# Altium footprint library Modules.PcbLib: 14 footprints (part 4 of 6)
Each footprint in its own frame and in the unit in brackets; x right, y up, seen from the top. Pads: shape width x height; smd on the part's side, far side on the other; paste and mask are expansions set on the pad; w line width, h text height; cw(c..) or ccw(c..) is an arc to the next point about the centre after c.
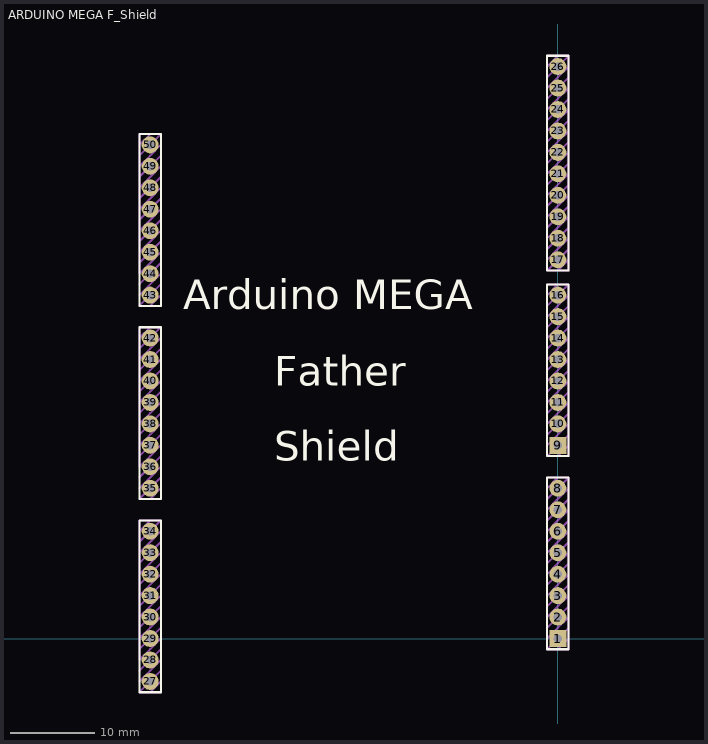
[diagram p3: the footprint, top view; thin cyan lines are the x and y axes]

## ARDUINO MEGA F_Shield [mm] "ARDUINO MEGA 2560 Full Father Shield"
pads (50):
  rect 2x2 hole 1: 1(0,0) 9(0,22.86)
  round 2 hole 1: 2(0,2.54) 3(0,5.08) 4(0,7.62) 5(0,10.16) 6(0,12.7) 7(0,15.24) 8(0,17.78) 10(0,25.4) 11(0,27.94) 12(0,30.48) 13(0,33.02) 14(0,35.56) 15(0,38.1) 16(0,40.64) 17(0,44.831) 18(0,47.371) 19(0,49.911) 20(0,52.451) 21(0,54.991) 22(0,57.531) 23(0,60.071) 24(0,62.611) 25(0,65.151) 26(0,67.691) 27(-48.26,-5.08) 28(-48.26,-2.54) 29(-48.26,0) 30(-48.26,2.54) 31(-48.26,5.08) 32(-48.26,7.62) 33(-48.26,10.16) 34(-48.26,12.7) 35(-48.26,17.78) 36(-48.26,20.32) 37(-48.26,22.86) 38(-48.26,25.4) 39(-48.26,27.94) 40(-48.26,30.48) 41(-48.26,33.02) 42(-48.26,35.56) 43(-48.26,40.64) 44(-48.26,43.18) 45(-48.26,45.72) 46(-48.26,48.26) 47(-48.26,50.8) 48(-48.26,53.34) 49(-48.26,55.88) 50(-48.26,58.42)
Top Overlay:
  drawing of 313 lines, arcs and shapes, not listed
  text "Father" at -33.59,29.91 h3.5
  text "Shield" at -33.59,21.02 h3.5
  text "Arduino MEGA" at -44.323,38.989 h3.5
Top Draw:
  drawing of 261 lines, arcs and shapes, not listed
3D body: height 2, standoff 0, extent -0.508,1.016 0.508,1.524
3D body: height 8.1, standoff 7.71, extent -0.257,2.283 0.197,2.737
3D body: height 8.1, standoff 7.71, extent -0.257,2.343 0.197,2.797
3D body: height 8.1, standoff 7.71, extent -0.197,2.343 0.257,2.797
3D body: height 8.1, standoff 7.71, extent -0.197,2.283 0.257,2.737
3D body: height 8.1, standoff 8, extent 0.152,2.388 0.254,2.692
3D body: height 8, standoff -2, extent -0.254,2.286 0.254,2.794
3D body: height 8.1, standoff 8, extent -0.152,2.692 0.152,2.794
3D body: height 8.1, standoff 8, extent -0.254,2.388 -0.152,2.692
3D body: height 8.1, standoff 8, extent -0.153,2.286 0.152,2.388
3D body: height 8.1, standoff 8, extent -0.152,2.388 0.152,2.692
3D body: height 2, standoff 0, extent -1.016,1.524 1.016,3.556
3D body: height 8.1, standoff 7.71, extent -0.257,-0.257 0.197,0.197
3D body: height 8.1, standoff 7.71, extent -0.257,-0.197 0.197,0.257
3D body: height 8.1, standoff 7.71, extent -0.197,-0.197 0.257,0.257
3D body: height 8.1, standoff 7.71, extent -0.197,-0.257 0.257,0.197
3D body: height 8.1, standoff 8, extent 0.152,-0.152 0.254,0.152
3D body: height 8, standoff -2, extent -0.254,-0.254 0.254,0.254
3D body: height 8.1, standoff 8, extent -0.152,0.152 0.152,0.254
3D body: height 8.1, standoff 8, extent -0.254,-0.152 -0.152,0.152
3D body: height 8.1, standoff 8, extent -0.153,-0.254 0.152,-0.152
3D body: height 8.1, standoff 8, extent -0.152,-0.152 0.152,0.152
3D body: height 2, standoff 0, extent -1.016,-1.016 1.016,1.016
3D body: height 2, standoff 0, extent -0.508,3.556 0.508,4.064
3D body: height 8.1, standoff 7.71, extent -0.257,4.823 0.197,5.277
3D body: height 8.1, standoff 7.71, extent -0.257,4.883 0.197,5.337
3D body: height 8.1, standoff 7.71, extent -0.197,4.883 0.257,5.337
3D body: height 8.1, standoff 7.71, extent -0.197,4.823 0.257,5.277
3D body: height 8.1, standoff 8, extent 0.152,4.928 0.254,5.232
3D body: height 8, standoff -2, extent -0.254,4.826 0.254,5.334
3D body: height 8.1, standoff 8, extent -0.152,5.232 0.152,5.334
3D body: height 8.1, standoff 8, extent -0.254,4.928 -0.152,5.232
3D body: height 8.1, standoff 8, extent -0.153,4.826 0.152,4.928
3D body: height 8.1, standoff 8, extent -0.152,4.928 0.152,5.232
3D body: height 2, standoff 0, extent -1.016,4.064 1.016,6.096
3D body: height 2, standoff 0, extent -0.508,6.096 0.508,6.604
3D body: height 8.1, standoff 7.71, extent -0.257,7.363 0.197,7.817
3D body: height 8.1, standoff 7.71, extent -0.257,7.423 0.197,7.877
3D body: height 8.1, standoff 7.71, extent -0.197,7.423 0.257,7.877
3D body: height 8.1, standoff 7.71, extent -0.197,7.363 0.257,7.817
3D body: height 8.1, standoff 8, extent 0.152,7.468 0.254,7.772
3D body: height 8, standoff -2, extent -0.254,7.366 0.254,7.874
3D body: height 8.1, standoff 8, extent -0.152,7.772 0.152,7.874
3D body: height 8.1, standoff 8, extent -0.254,7.468 -0.152,7.772
3D body: height 8.1, standoff 8, extent -0.153,7.366 0.152,7.468
3D body: height 8.1, standoff 8, extent -0.152,7.468 0.152,7.772
3D body: height 2, standoff 0, extent -1.016,6.604 1.016,8.636
3D body: height 2, standoff 0, extent -0.508,8.636 0.508,9.144
3D body: height 8.1, standoff 7.71, extent -0.257,9.903 0.197,10.357
3D body: height 8.1, standoff 7.71, extent -0.257,9.963 0.197,10.417
3D body: height 8.1, standoff 7.71, extent -0.197,9.963 0.257,10.417
3D body: height 8.1, standoff 7.71, extent -0.197,9.903 0.257,10.357
3D body: height 8.1, standoff 8, extent 0.152,10.008 0.254,10.312
3D body: height 8, standoff -2, extent -0.254,9.906 0.254,10.414
3D body: height 8.1, standoff 8, extent -0.152,10.312 0.152,10.414
3D body: height 8.1, standoff 8, extent -0.254,10.008 -0.152,10.312
3D body: height 8.1, standoff 8, extent -0.153,9.906 0.152,10.008
3D body: height 8.1, standoff 8, extent -0.152,10.008 0.152,10.312
3D body: height 2, standoff 0, extent -1.016,9.144 1.016,11.176
3D body: height 2, standoff 0, extent -0.508,11.176 0.508,11.684
3D body: height 8.1, standoff 7.71, extent -0.257,12.443 0.197,12.897
3D body: height 8.1, standoff 7.71, extent -0.257,12.503 0.197,12.957
3D body: height 8.1, standoff 7.71, extent -0.197,12.503 0.257,12.957
3D body: height 8.1, standoff 7.71, extent -0.197,12.443 0.257,12.897
3D body: height 8.1, standoff 8, extent 0.152,12.548 0.254,12.852
3D body: height 8, standoff -2, extent -0.254,12.446 0.254,12.954
3D body: height 8.1, standoff 8, extent -0.152,12.852 0.152,12.954
3D body: height 8.1, standoff 8, extent -0.254,12.548 -0.152,12.852
3D body: height 8.1, standoff 8, extent -0.153,12.446 0.152,12.548
3D body: height 8.1, standoff 8, extent -0.152,12.548 0.152,12.852
3D body: height 2, standoff 0, extent -1.016,11.684 1.016,13.716
3D body: height 2, standoff 0, extent -0.508,13.716 0.508,14.224
3D body: height 8.1, standoff 7.71, extent -0.257,14.983 0.197,15.437
3D body: height 8.1, standoff 7.71, extent -0.257,15.043 0.197,15.497
3D body: height 8.1, standoff 7.71, extent -0.197,15.043 0.257,15.497
3D body: height 8.1, standoff 7.71, extent -0.197,14.983 0.257,15.437
3D body: height 8.1, standoff 8, extent 0.152,15.088 0.254,15.392
3D body: height 8, standoff -2, extent -0.254,14.986 0.254,15.494
3D body: height 8.1, standoff 8, extent -0.152,15.392 0.152,15.494
3D body: height 8.1, standoff 8, extent -0.254,15.088 -0.152,15.392
3D body: height 8.1, standoff 8, extent -0.153,14.986 0.152,15.088
3D body: height 8.1, standoff 8, extent -0.152,15.088 0.152,15.392
3D body: height 2, standoff 0, extent -1.016,14.224 1.016,16.256
3D body: height 2, standoff 0, extent -0.508,16.256 0.508,16.764
3D body: height 8.1, standoff 7.71, extent -0.257,17.523 0.197,17.977
3D body: height 8.1, standoff 7.71, extent -0.257,17.583 0.197,18.037
3D body: height 8.1, standoff 7.71, extent -0.197,17.583 0.257,18.037
3D body: height 8.1, standoff 7.71, extent -0.197,17.523 0.257,17.977
3D body: height 8.1, standoff 8, extent 0.152,17.628 0.254,17.932
3D body: height 8, standoff -2, extent -0.254,17.526 0.254,18.034
3D body: height 8.1, standoff 8, extent -0.152,17.932 0.152,18.034
3D body: height 8.1, standoff 8, extent -0.254,17.628 -0.152,17.932
3D body: height 8.1, standoff 8, extent -0.153,17.526 0.152,17.628
3D body: height 8.1, standoff 8, extent -0.152,17.628 0.152,17.932
3D body: height 2, standoff 0, extent -1.016,16.764 1.016,18.796
3D body: height 2, standoff 0, extent -0.508,23.876 0.508,24.384
3D body: height 8.1, standoff 7.71, extent -0.257,25.143 0.197,25.597
3D body: height 8.1, standoff 7.71, extent -0.257,25.203 0.197,25.657
3D body: height 8.1, standoff 7.71, extent -0.197,25.203 0.257,25.657
3D body: height 8.1, standoff 7.71, extent -0.197,25.143 0.257,25.597
3D body: height 8.1, standoff 8, extent 0.152,25.248 0.254,25.552
3D body: height 8, standoff -2, extent -0.254,25.146 0.254,25.654
3D body: height 8.1, standoff 8, extent -0.152,25.552 0.152,25.654
3D body: height 8.1, standoff 8, extent -0.254,25.248 -0.152,25.552
3D body: height 8.1, standoff 8, extent -0.153,25.146 0.152,25.248
3D body: height 8.1, standoff 8, extent -0.152,25.248 0.152,25.552
3D body: height 2, standoff 0, extent -1.016,24.384 1.016,26.416
3D body: height 2, standoff 0, extent -0.508,26.416 0.508,26.924
3D body: height 8.1, standoff 7.71, extent -0.257,27.683 0.197,28.137
3D body: height 8.1, standoff 7.71, extent -0.257,27.743 0.197,28.197
3D body: height 8.1, standoff 7.71, extent -0.197,27.743 0.257,28.197
3D body: height 8.1, standoff 7.71, extent -0.197,27.683 0.257,28.137
3D body: height 8.1, standoff 8, extent 0.152,27.788 0.254,28.092
3D body: height 8, standoff -2, extent -0.254,27.686 0.254,28.194
3D body: height 8.1, standoff 8, extent -0.152,28.092 0.152,28.194
3D body: height 8.1, standoff 8, extent -0.254,27.788 -0.152,28.092
3D body: height 8.1, standoff 8, extent -0.153,27.686 0.152,27.788
3D body: height 8.1, standoff 8, extent -0.152,27.788 0.152,28.092
3D body: height 2, standoff 0, extent -1.016,26.924 1.016,28.956
3D body: height 2, standoff 0, extent -0.508,28.956 0.508,29.464
3D body: height 8.1, standoff 7.71, extent -0.257,30.223 0.197,30.677
3D body: height 8.1, standoff 7.71, extent -0.257,30.283 0.197,30.737
3D body: height 8.1, standoff 7.71, extent -0.197,30.283 0.257,30.737
3D body: height 8.1, standoff 7.71, extent -0.197,30.223 0.257,30.677
3D body: height 8.1, standoff 8, extent 0.152,30.328 0.254,30.632
3D body: height 8, standoff -2, extent -0.254,30.226 0.254,30.734
3D body: height 8.1, standoff 8, extent -0.152,30.632 0.152,30.734
3D body: height 8.1, standoff 8, extent -0.254,30.328 -0.152,30.632
3D body: height 8.1, standoff 8, extent -0.153,30.226 0.152,30.328
3D body: height 8.1, standoff 8, extent -0.152,30.328 0.152,30.632
3D body: height 2, standoff 0, extent -1.016,29.464 1.016,31.496
3D body: height 2, standoff 0, extent -0.508,31.496 0.508,32.004
3D body: height 8.1, standoff 7.71, extent -0.257,32.763 0.197,33.217
3D body: height 8.1, standoff 7.71, extent -0.257,32.823 0.197,33.277
3D body: height 8.1, standoff 7.71, extent -0.197,32.823 0.257,33.277
3D body: height 8.1, standoff 7.71, extent -0.197,32.763 0.257,33.217
3D body: height 8.1, standoff 8, extent 0.152,32.868 0.254,33.172
3D body: height 8, standoff -2, extent -0.254,32.766 0.254,33.274
3D body: height 8.1, standoff 8, extent -0.152,33.172 0.152,33.274
3D body: height 8.1, standoff 8, extent -0.254,32.868 -0.152,33.172
3D body: height 8.1, standoff 8, extent -0.153,32.766 0.152,32.868
3D body: height 8.1, standoff 8, extent -0.152,32.868 0.152,33.172
3D body: height 2, standoff 0, extent -1.016,32.004 1.016,34.036
3D body: height 2, standoff 0, extent -0.508,34.036 0.508,34.544
3D body: height 8.1, standoff 7.71, extent -0.257,35.303 0.197,35.757
3D body: height 8.1, standoff 7.71, extent -0.257,35.363 0.197,35.817
3D body: height 8.1, standoff 7.71, extent -0.197,35.363 0.257,35.817
3D body: height 8.1, standoff 7.71, extent -0.197,35.303 0.257,35.757
3D body: height 8.1, standoff 8, extent 0.152,35.408 0.254,35.712
3D body: height 8, standoff -2, extent -0.254,35.306 0.254,35.814
3D body: height 8.1, standoff 8, extent -0.152,35.712 0.152,35.814
3D body: height 8.1, standoff 8, extent -0.254,35.408 -0.152,35.712
3D body: height 8.1, standoff 8, extent -0.153,35.306 0.152,35.408
3D body: height 8.1, standoff 8, extent -0.152,35.408 0.152,35.712
3D body: height 2, standoff 0, extent -1.016,34.544 1.016,36.576
3D body: height 2, standoff 0, extent -0.508,36.576 0.508,37.084
3D body: height 8.1, standoff 7.71, extent -0.257,37.843 0.197,38.297
3D body: height 8.1, standoff 7.71, extent -0.257,37.903 0.197,38.357
3D body: height 8.1, standoff 7.71, extent -0.197,37.903 0.257,38.357
3D body: height 8.1, standoff 7.71, extent -0.197,37.843 0.257,38.297
3D body: height 8.1, standoff 8, extent 0.152,37.948 0.254,38.252
3D body: height 8, standoff -2, extent -0.254,37.846 0.254,38.354
3D body: height 8.1, standoff 8, extent -0.152,38.252 0.152,38.354
3D body: height 8.1, standoff 8, extent -0.254,37.948 -0.152,38.252
3D body: height 8.1, standoff 8, extent -0.153,37.846 0.152,37.948
3D body: height 8.1, standoff 8, extent -0.152,37.948 0.152,38.252
3D body: height 2, standoff 0, extent -1.016,37.084 1.016,39.116
3D body: height 2, standoff 0, extent -0.508,39.116 0.508,39.624
3D body: height 8.1, standoff 7.71, extent -0.257,40.383 0.197,40.837
3D body: height 8.1, standoff 7.71, extent -0.257,40.443 0.197,40.897
3D body: height 8.1, standoff 7.71, extent -0.197,40.443 0.257,40.897
3D body: height 8.1, standoff 7.71, extent -0.197,40.383 0.257,40.837
3D body: height 8.1, standoff 8, extent 0.152,40.488 0.254,40.792
3D body: height 8, standoff -2, extent -0.254,40.386 0.254,40.894
3D body: height 8.1, standoff 8, extent -0.152,40.792 0.152,40.894
3D body: height 8.1, standoff 8, extent -0.254,40.488 -0.152,40.792
3D body: height 8.1, standoff 8, extent -0.153,40.386 0.152,40.488
3D body: height 8.1, standoff 8, extent -0.152,40.488 0.152,40.792
3D body: height 2, standoff 0, extent -1.016,39.624 1.016,41.656
3D body: height 8.1, standoff 7.71, extent -0.257,22.603 0.197,23.057
3D body: height 8.1, standoff 7.71, extent -0.257,22.663 0.197,23.117
3D body: height 8.1, standoff 7.71, extent -0.197,22.663 0.257,23.117
3D body: height 8.1, standoff 7.71, extent -0.197,22.603 0.257,23.057
3D body: height 8.1, standoff 8, extent 0.152,22.708 0.254,23.012
3D body: height 8, standoff -2, extent -0.254,22.606 0.254,23.114
3D body: height 8.1, standoff 8, extent -0.152,23.012 0.152,23.114
3D body: height 8.1, standoff 8, extent -0.254,22.708 -0.152,23.012
3D body: height 8.1, standoff 8, extent -0.153,22.606 0.152,22.708
3D body: height 8.1, standoff 8, extent -0.152,22.708 0.152,23.012
3D body: height 2, standoff 0, extent -1.016,21.844 1.016,23.876
3D body: height 2, standoff 0, extent -0.508,45.847 0.508,46.355
3D body: height 8.1, standoff 7.71, extent -0.257,47.114 0.197,47.568
3D body: height 8.1, standoff 7.71, extent -0.257,47.174 0.197,47.628
3D body: height 8.1, standoff 7.71, extent -0.197,47.174 0.257,47.628
3D body: height 8.1, standoff 7.71, extent -0.197,47.114 0.257,47.568
3D body: height 8.1, standoff 8, extent 0.152,47.219 0.254,47.523
3D body: height 8, standoff -2, extent -0.254,47.117 0.254,47.625
3D body: height 8.1, standoff 8, extent -0.152,47.523 0.152,47.625
3D body: height 8.1, standoff 8, extent -0.254,47.219 -0.152,47.523
3D body: height 8.1, standoff 8, extent -0.153,47.117 0.152,47.219
3D body: height 8.1, standoff 8, extent -0.152,47.219 0.152,47.523
3D body: height 2, standoff 0, extent -1.016,46.355 1.016,48.387
3D body: height 2, standoff 0, extent -0.508,48.387 0.508,48.895
3D body: height 8.1, standoff 7.71, extent -0.257,49.654 0.197,50.108
3D body: height 8.1, standoff 7.71, extent -0.257,49.714 0.197,50.168
3D body: height 8.1, standoff 7.71, extent -0.197,49.714 0.257,50.168
3D body: height 8.1, standoff 7.71, extent -0.197,49.654 0.257,50.108
3D body: height 8.1, standoff 8, extent 0.152,49.759 0.254,50.063
3D body: height 8, standoff -2, extent -0.254,49.657 0.254,50.165
3D body: height 8.1, standoff 8, extent -0.152,50.063 0.152,50.165
3D body: height 8.1, standoff 8, extent -0.254,49.759 -0.152,50.063
3D body: height 8.1, standoff 8, extent -0.153,49.657 0.152,49.759
3D body: height 8.1, standoff 8, extent -0.152,49.759 0.152,50.063
3D body: height 2, standoff 0, extent -1.016,48.895 1.016,50.927
3D body: height 2, standoff 0, extent -0.508,50.927 0.508,51.435
3D body: height 8.1, standoff 7.71, extent -0.257,52.194 0.197,52.648
3D body: height 8.1, standoff 7.71, extent -0.257,52.254 0.197,52.708
3D body: height 8.1, standoff 7.71, extent -0.197,52.254 0.257,52.708
3D body: height 8.1, standoff 7.71, extent -0.197,52.194 0.257,52.648
3D body: height 8.1, standoff 8, extent 0.152,52.299 0.254,52.603
3D body: height 8, standoff -2, extent -0.254,52.197 0.254,52.705
3D body: height 8.1, standoff 8, extent -0.152,52.603 0.152,52.705
3D body: height 8.1, standoff 8, extent -0.254,52.299 -0.152,52.603
3D body: height 8.1, standoff 8, extent -0.153,52.197 0.152,52.299
3D body: height 8.1, standoff 8, extent -0.152,52.299 0.152,52.603
3D body: height 2, standoff 0, extent -1.016,51.435 1.016,53.467
3D body: height 2, standoff 0, extent -0.508,53.467 0.508,53.975
3D body: height 8.1, standoff 7.71, extent -0.257,54.734 0.197,55.188
3D body: height 8.1, standoff 7.71, extent -0.257,54.794 0.197,55.248
3D body: height 8.1, standoff 7.71, extent -0.197,54.794 0.257,55.248
3D body: height 8.1, standoff 7.71, extent -0.197,54.734 0.257,55.188
3D body: height 8.1, standoff 8, extent 0.152,54.839 0.254,55.143
3D body: height 8, standoff -2, extent -0.254,54.737 0.254,55.245
3D body: height 8.1, standoff 8, extent -0.152,55.143 0.152,55.245
3D body: height 8.1, standoff 8, extent -0.254,54.839 -0.152,55.143
3D body: height 8.1, standoff 8, extent -0.153,54.737 0.152,54.839
3D body: height 8.1, standoff 8, extent -0.152,54.839 0.152,55.143
3D body: height 2, standoff 0, extent -1.016,53.975 1.016,56.007
3D body: height 2, standoff 0, extent -0.508,56.007 0.508,56.515
3D body: height 8.1, standoff 7.71, extent -0.257,57.274 0.197,57.728
3D body: height 8.1, standoff 7.71, extent -0.257,57.334 0.197,57.788
3D body: height 8.1, standoff 7.71, extent -0.197,57.334 0.257,57.788
3D body: height 8.1, standoff 7.71, extent -0.197,57.274 0.257,57.728
3D body: height 8.1, standoff 8, extent 0.152,57.379 0.254,57.683
3D body: height 8, standoff -2, extent -0.254,57.277 0.254,57.785
3D body: height 8.1, standoff 8, extent -0.152,57.683 0.152,57.785
3D body: height 8.1, standoff 8, extent -0.254,57.379 -0.152,57.683
3D body: height 8.1, standoff 8, extent -0.153,57.277 0.152,57.379
3D body: height 8.1, standoff 8, extent -0.152,57.379 0.152,57.683
3D body: height 2, standoff 0, extent -1.016,56.515 1.016,58.547
3D body: height 2, standoff 0, extent -0.508,58.547 0.508,59.055
3D body: height 8.1, standoff 7.71, extent -0.257,59.814 0.197,60.268
3D body: height 8.1, standoff 7.71, extent -0.257,59.874 0.197,60.328
3D body: height 8.1, standoff 7.71, extent -0.197,59.874 0.257,60.328
3D body: height 8.1, standoff 7.71, extent -0.197,59.814 0.257,60.268
3D body: height 8.1, standoff 8, extent 0.152,59.919 0.254,60.223
3D body: height 8, standoff -2, extent -0.254,59.817 0.254,60.325
3D body: height 8.1, standoff 8, extent -0.152,60.223 0.152,60.325
3D body: height 8.1, standoff 8, extent -0.254,59.919 -0.152,60.223
3D body: height 8.1, standoff 8, extent -0.153,59.817 0.152,59.919
3D body: height 8.1, standoff 8, extent -0.152,59.919 0.152,60.223
3D body: height 2, standoff 0, extent -1.016,59.055 1.016,61.087
3D body: height 2, standoff 0, extent -0.508,61.087 0.508,61.595
3D body: height 8.1, standoff 7.71, extent -0.257,62.354 0.197,62.808
3D body: height 8.1, standoff 7.71, extent -0.257,62.414 0.197,62.868
3D body: height 8.1, standoff 7.71, extent -0.197,62.414 0.257,62.868
3D body: height 8.1, standoff 7.71, extent -0.197,62.354 0.257,62.808
3D body: height 8.1, standoff 8, extent 0.152,62.459 0.254,62.763
3D body: height 8, standoff -2, extent -0.254,62.357 0.254,62.865
3D body: height 8.1, standoff 8, extent -0.152,62.763 0.152,62.865
3D body: height 8.1, standoff 8, extent -0.254,62.459 -0.152,62.763
3D body: height 8.1, standoff 8, extent -0.153,62.357 0.152,62.459
3D body: height 8.1, standoff 8, extent -0.152,62.459 0.152,62.763
3D body: height 2, standoff 0, extent -1.016,61.595 1.016,63.627
3D body: height 8.1, standoff 7.71, extent -0.257,44.574 0.197,45.028
3D body: height 8.1, standoff 7.71, extent -0.257,44.634 0.197,45.088
3D body: height 8.1, standoff 7.71, extent -0.197,44.634 0.257,45.088
3D body: height 8.1, standoff 7.71, extent -0.197,44.574 0.257,45.028
3D body: height 8.1, standoff 8, extent 0.152,44.679 0.254,44.983
3D body: height 8, standoff -2, extent -0.254,44.577 0.254,45.085
3D body: height 8.1, standoff 8, extent -0.152,44.983 0.152,45.085
3D body: height 8.1, standoff 8, extent -0.254,44.679 -0.152,44.983
3D body: height 8.1, standoff 8, extent -0.153,44.577 0.152,44.679
3D body: height 8.1, standoff 8, extent -0.152,44.679 0.152,44.983
3D body: height 2, standoff 0, extent -1.016,43.815 1.016,45.847
3D body: height 2, standoff 0, extent -0.508,63.627 0.508,64.135
3D body: height 8.1, standoff 7.71, extent -0.257,64.894 0.197,65.348
3D body: height 8.1, standoff 7.71, extent -0.257,64.954 0.197,65.408
3D body: height 8.1, standoff 7.71, extent -0.197,64.954 0.257,65.408
3D body: height 8.1, standoff 7.71, extent -0.197,64.894 0.257,65.348
3D body: height 8.1, standoff 8, extent 0.152,64.999 0.254,65.303
3D body: height 8, standoff -2, extent -0.254,64.897 0.254,65.405
3D body: height 8.1, standoff 8, extent -0.152,65.303 0.152,65.405
3D body: height 8.1, standoff 8, extent -0.254,64.999 -0.152,65.303
3D body: height 8.1, standoff 8, extent -0.153,64.897 0.152,64.999
3D body: height 8.1, standoff 8, extent -0.152,64.999 0.152,65.303
3D body: height 2, standoff 0, extent -1.016,64.135 1.016,66.167
3D body: height 2, standoff 0, extent -0.508,66.167 0.508,66.675
3D body: height 8.1, standoff 7.71, extent -0.257,67.434 0.197,67.888
3D body: height 8.1, standoff 7.71, extent -0.257,67.494 0.197,67.948
3D body: height 8.1, standoff 7.71, extent -0.197,67.494 0.257,67.948
3D body: height 8.1, standoff 7.71, extent -0.197,67.434 0.257,67.888
3D body: height 8.1, standoff 8, extent 0.152,67.539 0.254,67.843
3D body: height 8, standoff -2, extent -0.254,67.437 0.254,67.945
3D body: height 8.1, standoff 8, extent -0.152,67.843 0.152,67.945
3D body: height 8.1, standoff 8, extent -0.254,67.539 -0.152,67.843
3D body: height 8.1, standoff 8, extent -0.153,67.437 0.152,67.539
3D body: height 8.1, standoff 8, extent -0.152,67.539 0.152,67.843
3D body: height 2, standoff 0, extent -1.016,66.675 1.016,68.707
3D body: height 2, standoff 0, extent -48.768,-4.064 -47.752,-3.556
3D body: height 8.1, standoff 7.71, extent -48.517,-2.797 -48.063,-2.343
3D body: height 8.1, standoff 7.71, extent -48.517,-2.737 -48.063,-2.283
3D body: height 8.1, standoff 7.71, extent -48.457,-2.737 -48.003,-2.283
3D body: height 8.1, standoff 7.71, extent -48.457,-2.797 -48.003,-2.343
3D body: height 8.1, standoff 8, extent -48.108,-2.692 -48.006,-2.388
3D body: height 8, standoff -2, extent -48.514,-2.794 -48.006,-2.286
3D body: height 8.1, standoff 8, extent -48.412,-2.388 -48.108,-2.286
3D body: height 8.1, standoff 8, extent -48.514,-2.692 -48.412,-2.388
3D body: height 8.1, standoff 8, extent -48.413,-2.794 -48.108,-2.692
3D body: height 8.1, standoff 8, extent -48.412,-2.692 -48.108,-2.388
3D body: height 2, standoff 0, extent -49.276,-3.556 -47.244,-1.524
3D body: height 8.1, standoff 7.71, extent -48.517,-5.337 -48.063,-4.883
3D body: height 8.1, standoff 7.71, extent -48.517,-5.277 -48.063,-4.823
3D body: height 8.1, standoff 7.71, extent -48.457,-5.277 -48.003,-4.823
3D body: height 8.1, standoff 7.71, extent -48.457,-5.337 -48.003,-4.883
3D body: height 8.1, standoff 8, extent -48.108,-5.232 -48.006,-4.928
3D body: height 8, standoff -2, extent -48.514,-5.334 -48.006,-4.826
3D body: height 8.1, standoff 8, extent -48.412,-4.928 -48.108,-4.826
3D body: height 8.1, standoff 8, extent -48.514,-5.232 -48.412,-4.928
3D body: height 8.1, standoff 8, extent -48.413,-5.334 -48.108,-5.232
3D body: height 8.1, standoff 8, extent -48.412,-5.232 -48.108,-4.928
3D body: height 2, standoff 0, extent -49.276,-6.096 -47.244,-4.064
3D body: height 2, standoff 0, extent -48.768,-1.524 -47.752,-1.016
3D body: height 8.1, standoff 7.71, extent -48.517,-0.257 -48.063,0.197
3D body: height 8.1, standoff 7.71, extent -48.517,-0.197 -48.063,0.257
3D body: height 8.1, standoff 7.71, extent -48.457,-0.197 -48.003,0.257
3D body: height 8.1, standoff 7.71, extent -48.457,-0.257 -48.003,0.197
3D body: height 8.1, standoff 8, extent -48.108,-0.152 -48.006,0.152
3D body: height 8, standoff -2, extent -48.514,-0.254 -48.006,0.254
3D body: height 8.1, standoff 8, extent -48.412,0.152 -48.108,0.254
3D body: height 8.1, standoff 8, extent -48.514,-0.152 -48.412,0.152
3D body: height 8.1, standoff 8, extent -48.413,-0.254 -48.108,-0.152
3D body: height 8.1, standoff 8, extent -48.412,-0.152 -48.108,0.152
3D body: height 2, standoff 0, extent -49.276,-1.016 -47.244,1.016
3D body: height 2, standoff 0, extent -48.768,1.016 -47.752,1.524
3D body: height 8.1, standoff 7.71, extent -48.517,2.283 -48.063,2.737
3D body: height 8.1, standoff 7.71, extent -48.517,2.343 -48.063,2.797
3D body: height 8.1, standoff 7.71, extent -48.457,2.343 -48.003,2.797
3D body: height 8.1, standoff 7.71, extent -48.457,2.283 -48.003,2.737
3D body: height 8.1, standoff 8, extent -48.108,2.388 -48.006,2.692
3D body: height 8, standoff -2, extent -48.514,2.286 -48.006,2.794
3D body: height 8.1, standoff 8, extent -48.412,2.692 -48.108,2.794
3D body: height 8.1, standoff 8, extent -48.514,2.388 -48.412,2.692
3D body: height 8.1, standoff 8, extent -48.413,2.286 -48.108,2.388
3D body: height 8.1, standoff 8, extent -48.412,2.388 -48.108,2.692
3D body: height 2, standoff 0, extent -49.276,1.524 -47.244,3.556
3D body: height 2, standoff 0, extent -48.768,3.556 -47.752,4.064
3D body: height 8.1, standoff 7.71, extent -48.517,4.823 -48.063,5.277
3D body: height 8.1, standoff 7.71, extent -48.517,4.883 -48.063,5.337
3D body: height 8.1, standoff 7.71, extent -48.457,4.883 -48.003,5.337
3D body: height 8.1, standoff 7.71, extent -48.457,4.823 -48.003,5.277
3D body: height 8.1, standoff 8, extent -48.108,4.928 -48.006,5.232
3D body: height 8, standoff -2, extent -48.514,4.826 -48.006,5.334
3D body: height 8.1, standoff 8, extent -48.412,5.232 -48.108,5.334
3D body: height 8.1, standoff 8, extent -48.514,4.928 -48.412,5.232
3D body: height 8.1, standoff 8, extent -48.413,4.826 -48.108,4.928
3D body: height 8.1, standoff 8, extent -48.412,4.928 -48.108,5.232
3D body: height 2, standoff 0, extent -49.276,4.064 -47.244,6.096
3D body: height 2, standoff 0, extent -48.768,6.096 -47.752,6.604
3D body: height 8.1, standoff 7.71, extent -48.517,7.363 -48.063,7.817
3D body: height 8.1, standoff 7.71, extent -48.517,7.423 -48.063,7.877
3D body: height 8.1, standoff 7.71, extent -48.457,7.423 -48.003,7.877
3D body: height 8.1, standoff 7.71, extent -48.457,7.363 -48.003,7.817
3D body: height 8.1, standoff 8, extent -48.108,7.468 -48.006,7.772
3D body: height 8, standoff -2, extent -48.514,7.366 -48.006,7.874
3D body: height 8.1, standoff 8, extent -48.412,7.772 -48.108,7.874
3D body: height 8.1, standoff 8, extent -48.514,7.468 -48.412,7.772
3D body: height 8.1, standoff 8, extent -48.413,7.366 -48.108,7.468
3D body: height 8.1, standoff 8, extent -48.412,7.468 -48.108,7.772
3D body: height 2, standoff 0, extent -49.276,6.604 -47.244,8.636
3D body: height 2, standoff 0, extent -48.768,8.636 -47.752,9.144
3D body: height 8.1, standoff 7.71, extent -48.517,9.903 -48.063,10.357
3D body: height 8.1, standoff 7.71, extent -48.517,9.963 -48.063,10.417
3D body: height 8.1, standoff 7.71, extent -48.457,9.963 -48.003,10.417
3D body: height 8.1, standoff 7.71, extent -48.457,9.903 -48.003,10.357
3D body: height 8.1, standoff 8, extent -48.108,10.008 -48.006,10.312
3D body: height 8, standoff -2, extent -48.514,9.906 -48.006,10.414
3D body: height 8.1, standoff 8, extent -48.412,10.312 -48.108,10.414
3D body: height 8.1, standoff 8, extent -48.514,10.008 -48.412,10.312
3D body: height 8.1, standoff 8, extent -48.413,9.906 -48.108,10.008
3D body: height 8.1, standoff 8, extent -48.412,10.008 -48.108,10.312
3D body: height 2, standoff 0, extent -49.276,9.144 -47.244,11.176
3D body: height 2, standoff 0, extent -48.768,11.176 -47.752,11.684
3D body: height 8.1, standoff 7.71, extent -48.517,12.443 -48.063,12.897
3D body: height 8.1, standoff 7.71, extent -48.517,12.503 -48.063,12.957
3D body: height 8.1, standoff 7.71, extent -48.457,12.503 -48.003,12.957
3D body: height 8.1, standoff 7.71, extent -48.457,12.443 -48.003,12.897
3D body: height 8.1, standoff 8, extent -48.108,12.548 -48.006,12.852
3D body: height 8, standoff -2, extent -48.514,12.446 -48.006,12.954
3D body: height 8.1, standoff 8, extent -48.412,12.852 -48.108,12.954
3D body: height 8.1, standoff 8, extent -48.514,12.548 -48.412,12.852
3D body: height 8.1, standoff 8, extent -48.413,12.446 -48.108,12.548
3D body: height 8.1, standoff 8, extent -48.412,12.548 -48.108,12.852
3D body: height 2, standoff 0, extent -49.276,11.684 -47.244,13.716
3D body: height 2, standoff 0, extent -48.768,18.796 -47.752,19.304
3D body: height 8.1, standoff 7.71, extent -48.517,20.063 -48.063,20.517
3D body: height 8.1, standoff 7.71, extent -48.517,20.123 -48.063,20.577
3D body: height 8.1, standoff 7.71, extent -48.457,20.123 -48.003,20.577
3D body: height 8.1, standoff 7.71, extent -48.457,20.063 -48.003,20.517
3D body: height 8.1, standoff 8, extent -48.108,20.168 -48.006,20.472
3D body: height 8, standoff -2, extent -48.514,20.066 -48.006,20.574
3D body: height 8.1, standoff 8, extent -48.412,20.472 -48.108,20.574
3D body: height 8.1, standoff 8, extent -48.514,20.168 -48.412,20.472
3D body: height 8.1, standoff 8, extent -48.413,20.066 -48.108,20.168
3D body: height 8.1, standoff 8, extent -48.412,20.168 -48.108,20.472
3D body: height 2, standoff 0, extent -49.276,19.304 -47.244,21.336
3D body: height 2, standoff 0, extent -48.768,21.336 -47.752,21.844
3D body: height 8.1, standoff 7.71, extent -48.517,22.603 -48.063,23.057
3D body: height 8.1, standoff 7.71, extent -48.517,22.663 -48.063,23.117
3D body: height 8.1, standoff 7.71, extent -48.457,22.663 -48.003,23.117
3D body: height 8.1, standoff 7.71, extent -48.457,22.603 -48.003,23.057
3D body: height 8.1, standoff 8, extent -48.108,22.708 -48.006,23.012
3D body: height 8, standoff -2, extent -48.514,22.606 -48.006,23.114
3D body: height 8.1, standoff 8, extent -48.412,23.012 -48.108,23.114
3D body: height 8.1, standoff 8, extent -48.514,22.708 -48.412,23.012
3D body: height 8.1, standoff 8, extent -48.413,22.606 -48.108,22.708
3D body: height 8.1, standoff 8, extent -48.412,22.708 -48.108,23.012
3D body: height 2, standoff 0, extent -49.276,21.844 -47.244,23.876
3D body: height 2, standoff 0, extent -48.768,23.876 -47.752,24.384
3D body: height 8.1, standoff 7.71, extent -48.517,25.143 -48.063,25.597
3D body: height 8.1, standoff 7.71, extent -48.517,25.203 -48.063,25.657
3D body: height 8.1, standoff 7.71, extent -48.457,25.203 -48.003,25.657
3D body: height 8.1, standoff 7.71, extent -48.457,25.143 -48.003,25.597
3D body: height 8.1, standoff 8, extent -48.108,25.248 -48.006,25.552
3D body: height 8, standoff -2, extent -48.514,25.146 -48.006,25.654
3D body: height 8.1, standoff 8, extent -48.412,25.552 -48.108,25.654
3D body: height 8.1, standoff 8, extent -48.514,25.248 -48.412,25.552
3D body: height 8.1, standoff 8, extent -48.413,25.146 -48.108,25.248
3D body: height 8.1, standoff 8, extent -48.412,25.248 -48.108,25.552
3D body: height 2, standoff 0, extent -49.276,24.384 -47.244,26.416
3D body: height 2, standoff 0, extent -48.768,26.416 -47.752,26.924
3D body: height 8.1, standoff 7.71, extent -48.517,27.683 -48.063,28.137
3D body: height 8.1, standoff 7.71, extent -48.517,27.743 -48.063,28.197
3D body: height 8.1, standoff 7.71, extent -48.457,27.743 -48.003,28.197
3D body: height 8.1, standoff 7.71, extent -48.457,27.683 -48.003,28.137
3D body: height 8.1, standoff 8, extent -48.108,27.788 -48.006,28.092
3D body: height 8, standoff -2, extent -48.514,27.686 -48.006,28.194
3D body: height 8.1, standoff 8, extent -48.412,28.092 -48.108,28.194
3D body: height 8.1, standoff 8, extent -48.514,27.788 -48.412,28.092
3D body: height 8.1, standoff 8, extent -48.413,27.686 -48.108,27.788
3D body: height 8.1, standoff 8, extent -48.412,27.788 -48.108,28.092
3D body: height 2, standoff 0, extent -49.276,26.924 -47.244,28.956
3D body: height 2, standoff 0, extent -48.768,28.956 -47.752,29.464
3D body: height 8.1, standoff 7.71, extent -48.517,30.223 -48.063,30.677
3D body: height 8.1, standoff 7.71, extent -48.517,30.283 -48.063,30.737
3D body: height 8.1, standoff 7.71, extent -48.457,30.283 -48.003,30.737
3D body: height 8.1, standoff 7.71, extent -48.457,30.223 -48.003,30.677
3D body: height 8.1, standoff 8, extent -48.108,30.328 -48.006,30.632
3D body: height 8, standoff -2, extent -48.514,30.226 -48.006,30.734
3D body: height 8.1, standoff 8, extent -48.412,30.632 -48.108,30.734
3D body: height 8.1, standoff 8, extent -48.514,30.328 -48.412,30.632
3D body: height 8.1, standoff 8, extent -48.413,30.226 -48.108,30.328
3D body: height 8.1, standoff 8, extent -48.412,30.328 -48.108,30.632
3D body: height 2, standoff 0, extent -49.276,29.464 -47.244,31.496
3D body: height 2, standoff 0, extent -48.768,31.496 -47.752,32.004
3D body: height 8.1, standoff 7.71, extent -48.517,32.763 -48.063,33.217
3D body: height 8.1, standoff 7.71, extent -48.517,32.823 -48.063,33.277
3D body: height 8.1, standoff 7.71, extent -48.457,32.823 -48.003,33.277
3D body: height 8.1, standoff 7.71, extent -48.457,32.763 -48.003,33.217
3D body: height 8.1, standoff 8, extent -48.108,32.868 -48.006,33.172
3D body: height 8, standoff -2, extent -48.514,32.766 -48.006,33.274
3D body: height 8.1, standoff 8, extent -48.412,33.172 -48.108,33.274
3D body: height 8.1, standoff 8, extent -48.514,32.868 -48.412,33.172
3D body: height 8.1, standoff 8, extent -48.413,32.766 -48.108,32.868
3D body: height 8.1, standoff 8, extent -48.412,32.868 -48.108,33.172
3D body: height 2, standoff 0, extent -49.276,32.004 -47.244,34.036
3D body: height 2, standoff 0, extent -48.768,34.036 -47.752,34.544
3D body: height 8.1, standoff 7.71, extent -48.517,35.303 -48.063,35.757
3D body: height 8.1, standoff 7.71, extent -48.517,35.363 -48.063,35.817
3D body: height 8.1, standoff 7.71, extent -48.457,35.363 -48.003,35.817
3D body: height 8.1, standoff 7.71, extent -48.457,35.303 -48.003,35.757
3D body: height 8.1, standoff 8, extent -48.108,35.408 -48.006,35.712
3D body: height 8, standoff -2, extent -48.514,35.306 -48.006,35.814
3D body: height 8.1, standoff 8, extent -48.412,35.712 -48.108,35.814
3D body: height 8.1, standoff 8, extent -48.514,35.408 -48.412,35.712
3D body: height 8.1, standoff 8, extent -48.413,35.306 -48.108,35.408
3D body: height 8.1, standoff 8, extent -48.412,35.408 -48.108,35.712
3D body: height 2, standoff 0, extent -49.276,34.544 -47.244,36.576
3D body: height 8.1, standoff 7.71, extent -48.517,17.523 -48.063,17.977
3D body: height 8.1, standoff 7.71, extent -48.517,17.583 -48.063,18.037
3D body: height 8.1, standoff 7.71, extent -48.457,17.583 -48.003,18.037
3D body: height 8.1, standoff 7.71, extent -48.457,17.523 -48.003,17.977
3D body: height 8.1, standoff 8, extent -48.108,17.628 -48.006,17.932
3D body: height 8, standoff -2, extent -48.514,17.526 -48.006,18.034
3D body: height 8.1, standoff 8, extent -48.412,17.932 -48.108,18.034
3D body: height 8.1, standoff 8, extent -48.514,17.628 -48.412,17.932
3D body: height 8.1, standoff 8, extent -48.413,17.526 -48.108,17.628
3D body: height 8.1, standoff 8, extent -48.412,17.628 -48.108,17.932
3D body: height 2, standoff 0, extent -49.276,16.764 -47.244,18.796
3D body: height 2, standoff 0, extent -48.768,41.656 -47.752,42.164
3D body: height 8.1, standoff 7.71, extent -48.517,42.923 -48.063,43.377
3D body: height 8.1, standoff 7.71, extent -48.517,42.983 -48.063,43.437
3D body: height 8.1, standoff 7.71, extent -48.457,42.983 -48.003,43.437
3D body: height 8.1, standoff 7.71, extent -48.457,42.923 -48.003,43.377
3D body: height 8.1, standoff 8, extent -48.108,43.028 -48.006,43.332
3D body: height 8, standoff -2, extent -48.514,42.926 -48.006,43.434
3D body: height 8.1, standoff 8, extent -48.412,43.332 -48.108,43.434
3D body: height 8.1, standoff 8, extent -48.514,43.028 -48.412,43.332
3D body: height 8.1, standoff 8, extent -48.413,42.926 -48.108,43.028
3D body: height 8.1, standoff 8, extent -48.412,43.028 -48.108,43.332
3D body: height 2, standoff 0, extent -49.276,42.164 -47.244,44.196
3D body: height 2, standoff 0, extent -48.768,44.196 -47.752,44.704
3D body: height 8.1, standoff 7.71, extent -48.517,45.463 -48.063,45.917
3D body: height 8.1, standoff 7.71, extent -48.517,45.523 -48.063,45.977
3D body: height 8.1, standoff 7.71, extent -48.457,45.523 -48.003,45.977
3D body: height 8.1, standoff 7.71, extent -48.457,45.463 -48.003,45.917
3D body: height 8.1, standoff 8, extent -48.108,45.568 -48.006,45.872
3D body: height 8, standoff -2, extent -48.514,45.466 -48.006,45.974
3D body: height 8.1, standoff 8, extent -48.412,45.872 -48.108,45.974
3D body: height 8.1, standoff 8, extent -48.514,45.568 -48.412,45.872
3D body: height 8.1, standoff 8, extent -48.413,45.466 -48.108,45.568
3D body: height 8.1, standoff 8, extent -48.412,45.568 -48.108,45.872
3D body: height 2, standoff 0, extent -49.276,44.704 -47.244,46.736
3D body: height 2, standoff 0, extent -48.768,46.736 -47.752,47.244
3D body: height 8.1, standoff 7.71, extent -48.517,48.003 -48.063,48.457
3D body: height 8.1, standoff 7.71, extent -48.517,48.063 -48.063,48.517
3D body: height 8.1, standoff 7.71, extent -48.457,48.063 -48.003,48.517
3D body: height 8.1, standoff 7.71, extent -48.457,48.003 -48.003,48.457
3D body: height 8.1, standoff 8, extent -48.108,48.108 -48.006,48.412
3D body: height 8, standoff -2, extent -48.514,48.006 -48.006,48.514
3D body: height 8.1, standoff 8, extent -48.412,48.412 -48.108,48.514
3D body: height 8.1, standoff 8, extent -48.514,48.108 -48.412,48.412
3D body: height 8.1, standoff 8, extent -48.413,48.006 -48.108,48.108
3D body: height 8.1, standoff 8, extent -48.412,48.108 -48.108,48.412
3D body: height 2, standoff 0, extent -49.276,47.244 -47.244,49.276
3D body: height 2, standoff 0, extent -48.768,49.276 -47.752,49.784
3D body: height 8.1, standoff 7.71, extent -48.517,50.543 -48.063,50.997
3D body: height 8.1, standoff 7.71, extent -48.517,50.603 -48.063,51.057
3D body: height 8.1, standoff 7.71, extent -48.457,50.603 -48.003,51.057
3D body: height 8.1, standoff 7.71, extent -48.457,50.543 -48.003,50.997
3D body: height 8.1, standoff 8, extent -48.108,50.648 -48.006,50.952
3D body: height 8, standoff -2, extent -48.514,50.546 -48.006,51.054
3D body: height 8.1, standoff 8, extent -48.412,50.952 -48.108,51.054
3D body: height 8.1, standoff 8, extent -48.514,50.648 -48.412,50.952
3D body: height 8.1, standoff 8, extent -48.413,50.546 -48.108,50.648
3D body: height 8.1, standoff 8, extent -48.412,50.648 -48.108,50.952
3D body: height 2, standoff 0, extent -49.276,49.784 -47.244,51.816
3D body: height 2, standoff 0, extent -48.768,51.816 -47.752,52.324
3D body: height 8.1, standoff 7.71, extent -48.517,53.083 -48.063,53.537
3D body: height 8.1, standoff 7.71, extent -48.517,53.143 -48.063,53.597
3D body: height 8.1, standoff 7.71, extent -48.457,53.143 -48.003,53.597
3D body: height 8.1, standoff 7.71, extent -48.457,53.083 -48.003,53.537
3D body: height 8.1, standoff 8, extent -48.108,53.188 -48.006,53.492
3D body: height 8, standoff -2, extent -48.514,53.086 -48.006,53.594
3D body: height 8.1, standoff 8, extent -48.412,53.492 -48.108,53.594
3D body: height 8.1, standoff 8, extent -48.514,53.188 -48.412,53.492
3D body: height 8.1, standoff 8, extent -48.413,53.086 -48.108,53.188
3D body: height 8.1, standoff 8, extent -48.412,53.188 -48.108,53.492
3D body: height 2, standoff 0, extent -49.276,52.324 -47.244,54.356
3D body: height 2, standoff 0, extent -48.768,54.356 -47.752,54.864
3D body: height 8.1, standoff 7.71, extent -48.517,55.623 -48.063,56.077
3D body: height 8.1, standoff 7.71, extent -48.517,55.683 -48.063,56.137
3D body: height 8.1, standoff 7.71, extent -48.457,55.683 -48.003,56.137
3D body: height 8.1, standoff 7.71, extent -48.457,55.623 -48.003,56.077
3D body: height 8.1, standoff 8, extent -48.108,55.728 -48.006,56.032
3D body: height 8, standoff -2, extent -48.514,55.626 -48.006,56.134
3D body: height 8.1, standoff 8, extent -48.412,56.032 -48.108,56.134
3D body: height 8.1, standoff 8, extent -48.514,55.728 -48.412,56.032
3D body: height 8.1, standoff 8, extent -48.413,55.626 -48.108,55.728
3D body: height 8.1, standoff 8, extent -48.412,55.728 -48.108,56.032
3D body: height 2, standoff 0, extent -49.276,54.864 -47.244,56.896
3D body: height 2, standoff 0, extent -48.768,56.896 -47.752,57.404
3D body: height 8.1, standoff 7.71, extent -48.517,58.163 -48.063,58.617
3D body: height 8.1, standoff 7.71, extent -48.517,58.223 -48.063,58.677
3D body: height 8.1, standoff 7.71, extent -48.457,58.223 -48.003,58.677
3D body: height 8.1, standoff 7.71, extent -48.457,58.163 -48.003,58.617
3D body: height 8.1, standoff 8, extent -48.108,58.268 -48.006,58.572
3D body: height 8, standoff -2, extent -48.514,58.166 -48.006,58.674
3D body: height 8.1, standoff 8, extent -48.412,58.572 -48.108,58.674
3D body: height 8.1, standoff 8, extent -48.514,58.268 -48.412,58.572
3D body: height 8.1, standoff 8, extent -48.413,58.166 -48.108,58.268
3D body: height 8.1, standoff 8, extent -48.412,58.268 -48.108,58.572
3D body: height 2, standoff 0, extent -49.276,57.404 -47.244,59.436
3D body: height 8.1, standoff 7.71, extent -48.517,40.383 -48.063,40.837
3D body: height 8.1, standoff 7.71, extent -48.517,40.443 -48.063,40.897
3D body: height 8.1, standoff 7.71, extent -48.457,40.443 -48.003,40.897
3D body: height 8.1, standoff 7.71, extent -48.457,40.383 -48.003,40.837
3D body: height 8.1, standoff 8, extent -48.108,40.488 -48.006,40.792
3D body: height 8, standoff -2, extent -48.514,40.386 -48.006,40.894
3D body: height 8.1, standoff 8, extent -48.412,40.792 -48.108,40.894
3D body: height 8.1, standoff 8, extent -48.514,40.488 -48.412,40.792
3D body: height 8.1, standoff 8, extent -48.413,40.386 -48.108,40.488
3D body: height 8.1, standoff 8, extent -48.412,40.488 -48.108,40.792
3D body: height 2, standoff 0, extent -49.276,39.624 -47.244,41.656